# EAGLE library part MULTIPLEX1 (library Peerke)
2-Channel, 12-Bit ADC with I2C-Compatible Interface 10-Lead MSOP Source: http://www.analog.com/UploadedFiles/Data_Sheets/224965274AD7992_0.pdf
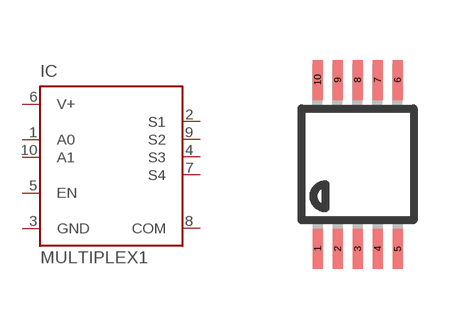
[diagram p1: symbol with the pads of MSOP10; footprint MSOP10]

Designator prefix IC

## MULTIPLEX1 (MPN: AD7992BRMZ-0; OC_FARNELL: 1078311; OC_NEWARK: 31M4422)  [MSOP10]
1  A0  in
2  S1  out
3  GND  pwr
4  S3  out
5  EN  in
6  V+  pwr
7  S4  out
8  COM
9  S2  out
10  A1  in

## Footprint MSOP10 (pad centres in mm)
10-Lead Mini Small Outline Package [MSOP] (RM-10) Source: http://www.analog.com/UploadedFiles/Data_Sheets/35641221898805SSM2167_b.pdf COMPLIANT TO JEDEC STANDARDS MO-187BA
smd 0.25 x 1: 1 -1,-2.113; 2 -0.5,-2.113; 3 0,-2.113; 4 0.5,-2.113; 5 1,-2.113; 6 1,2.113; 7 0.5,2.113; 8 0,2.113; 9 -0.5,2.113; 10 -1,2.113